# EAGLE library part TAG_CONNECT (library ubo_PQ60)
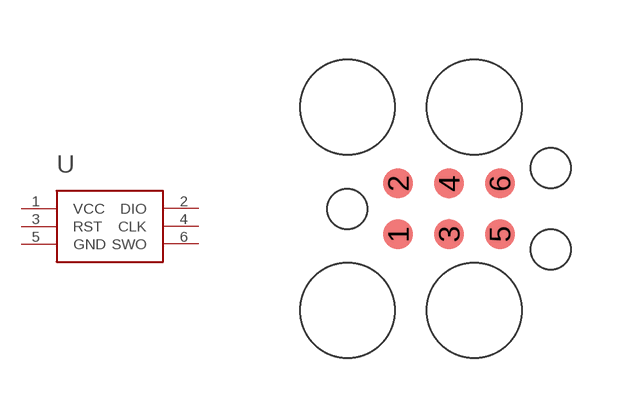
[diagram p16: symbol with the pads of TAG_CONNECT; footprint TAG_CONNECT]

Designator prefix -

## TAG_CONNECT  [TAG_CONNECT]
1  VCC
2  DIO
3  RST
4  CLK
5  GND
6  SWO

## Footprint TAG_CONNECT (pad centres in mm)
smd 0.75 x 0.75: 1 1.27,-0.635; 2 1.27,0.635; 3 2.54,-0.635; 4 2.54,0.635; 5 3.81,-0.635; 6 3.81,0.635
hole 1 at 0,0
hole 1 at 5.08,1.016
hole 1 at 5.08,-1.018
hole 2.37 at 0,-2.54
hole 2.37 at 3.175,-2.54
hole 2.37 at 0,2.54
hole 2.37 at 3.175,2.54